# Altium footprint library Miscellaneous Modules.PcbLib: 77 footprints (part 2 of 5)
Each footprint in its own frame and in the unit in brackets; x right, y up, seen from the top. Pads: shape width x height; smd on the part's side, far side on the other; paste and mask are expansions set on the pad; w line width, h text height; cw(c..) or ccw(c..) is an arc to the next point about the centre after c.
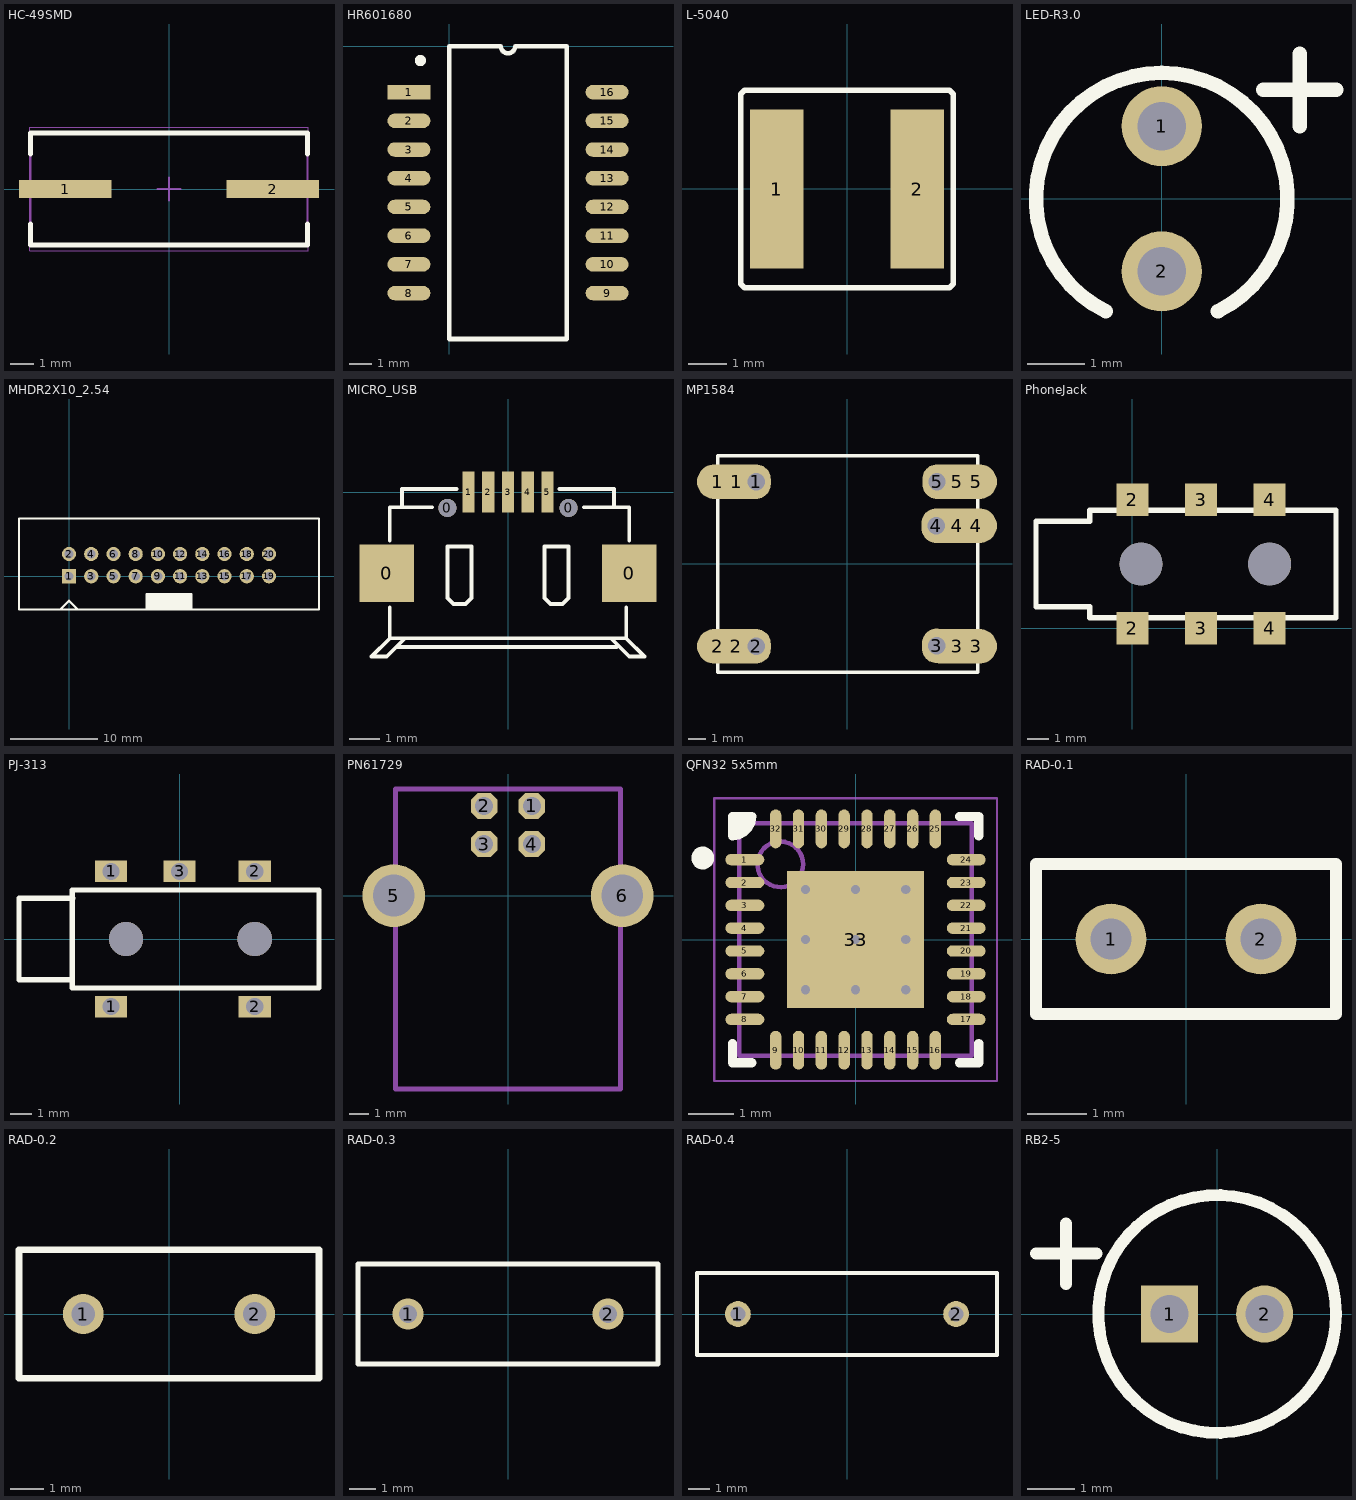
[diagram p1: the footprints below, top view; thin cyan lines are the x and y axes]

## HC-49SMD [mm] "Crystal, 2-Leads, Body 4.70x11.40mm, Pitch 8.80mm, IPC Medium Density"
height 4.2
pads (2):
  rect 4x0.8 smd: 1(-4.5,0) 2(4.5,0)
Top Overlay:
  lines w0.2: -6,-1.5 -6,-2.425 6,-2.425 6,-1.5 ; -6,1.5 -6,2.425 6,2.425 6,1.5
Mechanical 13:
  lines w0.1: -6,-2.425 6,-2.425 6,2.425 -6,2.425 -6,-2.425
Mechanical 15:
  lines w0.05: -6.025,-2.675 6.025,-2.675 6.025,2.675 -6.025,2.675 -6.025,-2.675
  lines w0.1: -0.5,0 0.5,0 ; 0,-0.5 0,0.5
3D body "HC49US SMT Crystal.STEP": height 4.2, standoff 0, extent -6.35,-2.35 6.35,2.35

## HR601680 [mm] "10/100Base-TX Transformer Module"
pads (16):
  rect 1.9x0.64 smd: 1(-1.778,-2.032)
  oval 1.9x0.64 smd: 2(-1.778,-3.302) 3(-1.778,-4.572) 4(-1.778,-5.842) 5(-1.778,-7.112) 6(-1.778,-8.382) 7(-1.778,-9.652) 8(-1.778,-10.922) 9(6.985,-10.922) 10(6.985,-9.652) 11(6.985,-8.382) 12(6.985,-7.112) 13(6.985,-5.842) 14(6.985,-4.572) 15(6.985,-3.302) 16(6.985,-2.032)
Top Overlay:
  circle w0.25: c-1.27,-0.635 r0.125
  lines w0.2: 0.007,-12.954 5.2,-12.954 5.2,0 2.921,0 cw(c2.603,0) 2.286,0 0.007,0 0.007,-12.954

## L-5040 [mm]
pads (2):
  rect 1.4x4.2 smd: 1(-1.85,0) 2(1.85,0)
Top Overlay:
  lines w0.152: -2.8,-2.5 -2.7,-2.6 2.7,-2.6 2.8,-2.5 2.8,2.5 2.7,2.6 -2.7,2.6 -2.8,2.5 -2.8,-2.5

## LED-R3.0 [mm] "LED RED DIFF 3MM ROUND T/H"
pads (2):
  round 1.4 hole 0.85: 1(0,1.27) 2(0,-1.27)
Top Overlay:
  lines w0.254: -0.984,-1.968 cw(c0,0) 0.984,-1.968 ; 1.778,1.905 3.048,1.905 ; 2.413,1.27 2.413,2.54

## MHDR2X10_2.54 [mil]
pads (20):
  rect 64x64 hole 39.37: 1(0,0)
  round 64 hole 39.37: 2(0,100) 3(100,0) 4(100,100) 5(200,0) 6(200,100) 7(300,0) 8(300,100) 9(400,0) 10(400,100) 11(500,0) 12(500,100) 13(600,0) 14(600,100) 15(700,0) 16(700,100) 17(800,0) 18(800,100) 19(900,0) 20(900,100)
Top Overlay:
  region: 550,-80 350,-80 350,-145 550,-145
  lines w10: -45,-150 -40,-150 0,-110 40,-150 ; -225,-150 -225,260 1125,260 1125,-150 -225,-150
  lines w10.5: 350,-145 350,-80 550,-80 550,-145

## MICRO_USB [mm]
height 3
pads (9):
  rect 1.8x1.9 smd: 0(-4,-2.675) 0(4,-2.675)
  round 0.6 hole 0.6: 0(-2,-0.525) 0(2,-0.525)
  rect 0.4x1.35 smd: 1(-1.3,0) 2(-0.65,0) 3(0,0) 4(0.65,0) 5(1.3,0)
Top Overlay:
  lines w0.127: -3.9,-3.8 -3.9,-4.825 ; -3.9,-1.6 -3.9,-0.5 -2.5,-0.5 ; -3.684,-5.109 3.591,-5.109 ; -3.5,-0.5 -3.5,0.1 -1.7,0.1 ; -3.4,-4.825 -4,-5.425 -4.5,-5.425 -3.9,-4.825 ; 1.7,0.1 3.5,0.1 3.5,-0.5 ; 2.5,-0.5 4,-0.5 4,-1.6 ; 3.4,-4.825 4,-5.425 4.5,-5.425 3.9,-4.825 ; 3.9,-3.8 3.9,-4.825 ; -3.9,-4.825 3.9,-4.825 ; -2,-3.5 -2,-1.8 -1.2,-1.8 -1.2,-3.5 -1.4,-3.7 -1.8,-3.7 -2,-3.5 ; 1.2,-3.5 1.4,-3.7 1.8,-3.7 2,-3.5 2,-1.8 1.2,-1.8 1.2,-3.5

## MP1584 [mm]
pads (15):
  oval 2.4x2 smd: 1(-7.455,4.751) 2(-7.455,-4.751) 3(7.455,-4.75) 4(7.455,2.211) 5(7.455,4.751)
  rect 2.2x2 smd: 1(-6.362,4.749) 2(-6.388,-4.751) 3(6.363,-4.751) 4(6.363,2.209) 5(6.363,4.749)
  oval 1.7x2 hole 1: 1(-5.245,4.751) 2(-5.245,-4.751) 3(5.169,-4.725) 4(5.144,2.211) 5(5.195,4.751)
Top Layer:
  lines w0.254: 5.728,-4.547 5.779,-4.598 ; 5.728,2.336 5.804,2.412
  lines w0.4: -5.905,4.571 -5.829,4.647
Top Overlay:
  lines w0.2: -7.455,6.246 7.545,6.246 ; -7.455,6.248 -7.455,-6.251 7.545,-6.251 7.545,6.248

## PhoneJack [mm] "3.5mm 3pin PhoneJack"
height 1.6
pads (8):
  rect 1.5x1.5 smd: 2(0,0) 2(0,6) 3(3.2,0) 3(3.2,6) 4(6.4,0) 4(6.4,6)
  round 2 hole 2 unplated: ""(0.4,3) ""(6.4,3)
Top Overlay:
  lines w0.254: -4.5,1 -4.5,5 -2,5 -2,5.5 9.5,5.5 9.5,0.5 -2,0.5 -2,1 -4.5,1
3D body "manifold_solid_brep_46435.stp": height 4.87, standoff -0.13, extent -4.438,-0.9 9.562,6.9

## PJ-313 [mm] "3.5mm"
pads (5):
  rect 1.5x1 hole 0.8 square: 1(-3.2,-3.15) 1(-3.2,3.15) 2(3.5,-3.15) 2(3.5,3.15) 3(0,3.15)
via -2.5,0 diameter 1.6 hole 1.6
via 3.5,0 diameter 1.6 hole 1.6
Top Overlay:
  lines w0.254: -7.493,-1.885 -7.493,1.905 -4.993,1.905 ; -7.473,-1.905 -5,-1.905 ; -5,-2.286 -5,2.286 6.5,2.286 6.5,-2.286 -5,-2.286

## PN61729 [mm] "PN61729"
pads (6):
  oct 1.38x1.38 hole 0.95: 1(1.25,4.71) 2(-1.25,4.71) 3(-1.25,2.71) 4(1.25,2.71)
  round 3.3 hole 2.2: 5(-6,0) 6(6,0)
Mechanical 2:
  lines w0.254: -5.9,-10.15 -5.9,5.6 5.9,5.6 5.9,-10.15 -5.9,-10.15

## QFN32 5x5mm [mm] "HVQFN, 32-Leads, Body 5.00x5.00mm, Pitch 0.50mm, Thermal Pad 3.60x3.60mm, IPC Medium Density"
height 0.85
pads (33):
  oval 0.85x0.25 smd: 1(-2.425,1.75) 2(-2.425,1.25) 3(-2.425,0.75) 4(-2.425,0.25) 5(-2.425,-0.25) 6(-2.425,-0.75) 7(-2.425,-1.25) 8(-2.425,-1.75) 17(2.425,-1.75) 18(2.425,-1.25) 19(2.425,-0.75) 20(2.425,-0.25) 21(2.425,0.25) 22(2.425,0.75) 23(2.425,1.25) 24(2.425,1.75)
  oval 0.25x0.85 smd: 9(-1.75,-2.425) 10(-1.25,-2.425) 11(-0.75,-2.425) 12(-0.25,-2.425) 13(0.25,-2.425) 14(0.75,-2.425) 15(1.25,-2.425) 16(1.75,-2.425) 25(1.75,2.425) 26(1.25,2.425) 27(0.75,2.425) 28(0.25,2.425) 29(-0.25,2.425) 30(-0.75,2.425) 31(-1.25,2.425) 32(-1.75,2.425)
  rect 3x3 smd: 33(0,0)
via 1.1,-1.1 diameter 0.5 hole 0.2
via 0,-1.1 diameter 0.5 hole 0.2
via -1.1,-1.1 diameter 0.5 hole 0.2
via 1.1,0 diameter 0.5 hole 0.2
via 0,0 diameter 0.5 hole 0.2
via -1.1,0 diameter 0.5 hole 0.2
via 1.1,1.1 diameter 0.5 hole 0.2
via 0,1.1 diameter 0.5 hole 0.2
via -1.1,1.1 diameter 0.5 hole 0.2
Top Overlay:
  circle w0.25: c-3.35,1.788 r0.125
  region: -2.7,2.7 -2.275,2.7 -2.275,2.551 -2.551,2.275 -2.7,2.275
  lines w0.2: -2.7,-2.275 -2.7,-2.7 -2.275,-2.7 ; 2.275,-2.7 2.7,-2.7 2.7,-2.275 ; 2.275,2.7 2.7,2.7 2.7,2.275 ; -2.7,2.275 ccw(c-2.7,2.7) -2.275,2.7 -2.7,2.7 -2.7,2.275
Mechanical 13:
  circle w0.1: c-1.65,1.65 r0.5
  lines w0.1: -2.55,-2.55 2.55,-2.55 2.55,2.55 -2.55,2.55 -2.55,-2.55
Mechanical 15:
  lines w0.05: -3.1,-3.1 3.1,-3.1 3.1,3.1 -3.1,3.1 -3.1,-3.1
  lines w0.1: -0.5,0 0.5,0 ; 0,-0.5 0,0.5
3D body: height 0.85, standoff 0, extent -2.55,-2.55 2.55,2.55

## RAD-0.1 [mm] "Radial Cap, Thru-Hole; 2 Leads; 0.1 in Pin Spacing"
pads (2):
  round 1.2 hole 0.7: 1(-1.27,0) 2(1.27,0)
Top Overlay:
  lines w0.2: -2.54,-1.27 2.54,-1.27 2.54,1.27 -2.54,1.27 -2.54,-1.27

## RAD-0.2 [mm] "Radial Cap, Thru-Hole; 2 Leads; 0.2 in Pin Spacing"
pads (2):
  round 1.2 hole 0.7: 1(-2.54,0) 2(2.54,0)
Top Overlay:
  lines w0.2: -4.445,-1.905 -4.445,1.905 4.445,1.905 4.445,-1.905 -4.445,-1.905

## RAD-0.3 [mm] "Radial Cap, Thru-Hole; 2 Leads; 0.3 in Pin Spacing"
height 6
pads (2):
  round 1.2 hole 0.7: 1(-3.81,0) 2(3.81,0)
Top Overlay:
  lines w0.2: -5.715,-1.905 -5.715,1.905 5.715,1.905 5.715,-1.905 -5.715,-1.905

## RAD-0.4 [mm] "Radial Cap, Thru-Hole; 2 Leads; 0.4 in Pin Spacing"
pads (2):
  round 1.2 hole 0.7: 1(-5.08,0) 2(5.08,0)
Top Overlay:
  lines w0.2: -6.985,-1.905 6.985,-1.905 6.985,1.905 -6.985,1.905 -6.985,-1.905

## RB2-5 [mm] "Capacitor (Radial); 2 Leads"
pads (2):
  rect 1.2x1.2 hole 0.8: 1(-1,0)
  round 1.2 hole 0.8: 2(1,0)
Top Overlay:
  circle w0.25: c0,0 r2.5
  lines w0.254: -3.81,1.27 -2.54,1.27 ; -3.175,0.635 -3.175,1.905
Mechanical 1:
  circle w0.02: c0,0 r2.5